# Altium footprint library 907 Controller.PcbLib: 4 footprints
Each footprint in its own frame and in the unit in brackets; x right, y up, seen from the top. Pads: shape width x height; smd on the part's side, far side on the other; paste and mask are expansions set on the pad; w line width, h text height; cw(c..) or ccw(c..) is an arc to the next point about the centre after c.
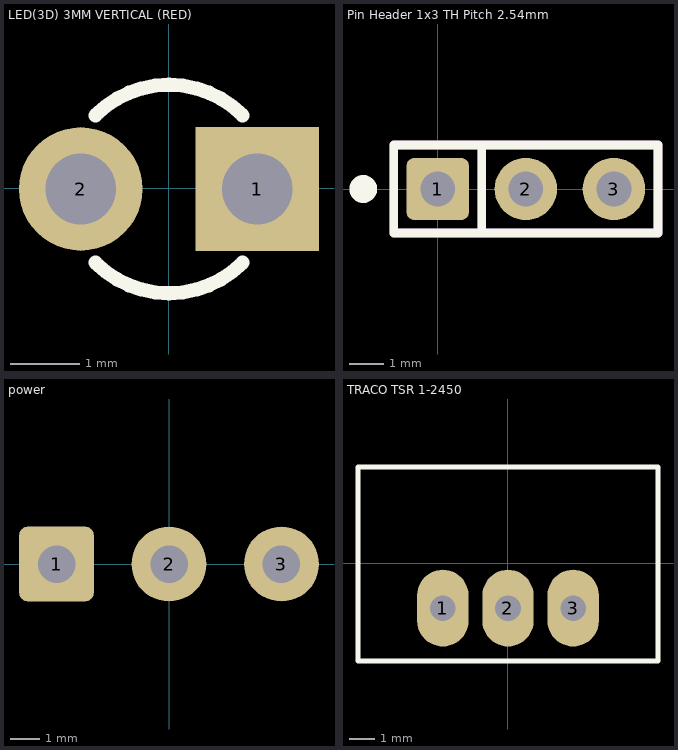
[diagram p0: the footprints below, top view; thin cyan lines are the x and y axes]

## LED(3D) 3MM VERTICAL (RED) [mil]
pads (2):
  rect 70x70 hole 40: 1(50.06,-0.28)
  round 70 hole 40: 2(-49.94,-0.28)
Top Overlay:
  lines w8: -41.7,-42.04 ccw(c0.06,-0.28) 41.82,-42.04 ; -41.7,41.47 cw(c0.06,-0.28) 41.82,41.47
3D body "User Library-LED_d3-RED.STEP": height 207.47, standoff -86.83, extent -65.51,-66.07 61,63.74

## Pin Header 1x3 TH Pitch 2.54mm [mm] "PinHeader 1x3 TH Pitch 2.54mm"
height 9.5
pads (3):
  rrect25% 1.8x1.8 hole 1: 1(0,0)
  round 1.8 hole 1: 2(2.54,0) 3(5.08,0)
Top Overlay:
  circle w0.5: c-2.15,0 r0.15
  lines w0.254: 1.27,-1.27 1.27,1.27 -1.27,1.27 ; -1.27,1.27 -1.27,-1.27 6.35,-1.27 6.35,1.27 -1.27,1.27
Mechanical 3:
  lines w0.254: 1.27,-1.27 1.27,1.27 -1.27,1.27 ; -1.27,1.27 -1.27,-1.27 6.35,-1.27 6.35,1.27 -1.27,1.27
3D body "Pin Header 1x3 TH Pitch 2.54mm.stp": height 9.5, standoff -3.2, extent -1.27,-1.27 6.35,1.27

## power [mil] "PinHeader 1x3 TH Pitch 2.54mm"
height 374.02
pads (3):
  rrect25% 100x100 hole 50: 1(-150,0)
  round 100 hole 50: 2(0,0) 3(150,0)

## TRACO TSR 1-2450 [mm]
pads (3):
  oval 2x3 hole 1 unplated: 1(-2.54,-1.75) 2(0,-1.75) 3(2.54,-1.75)
Top Overlay:
  lines w0.2: -5.85,-3.81 -5.85,3.75 5.85,3.75 5.85,-3.81 -5.85,-3.81
3D body "TSR 1-2450.stp": height 10.11, standoff -4.09, extent -5.85,-3.8 5.85,3.75